# Altium footprint library BMS_Devices.PcbLib: 136 footprints (part 9 of 9)
Each footprint in its own frame and in the unit in brackets; x right, y up, seen from the top. Pads: shape width x height; smd on the part's side, far side on the other; paste and mask are expansions set on the pad; w line width, h text height; cw(c..) or ccw(c..) is an arc to the next point about the centre after c.
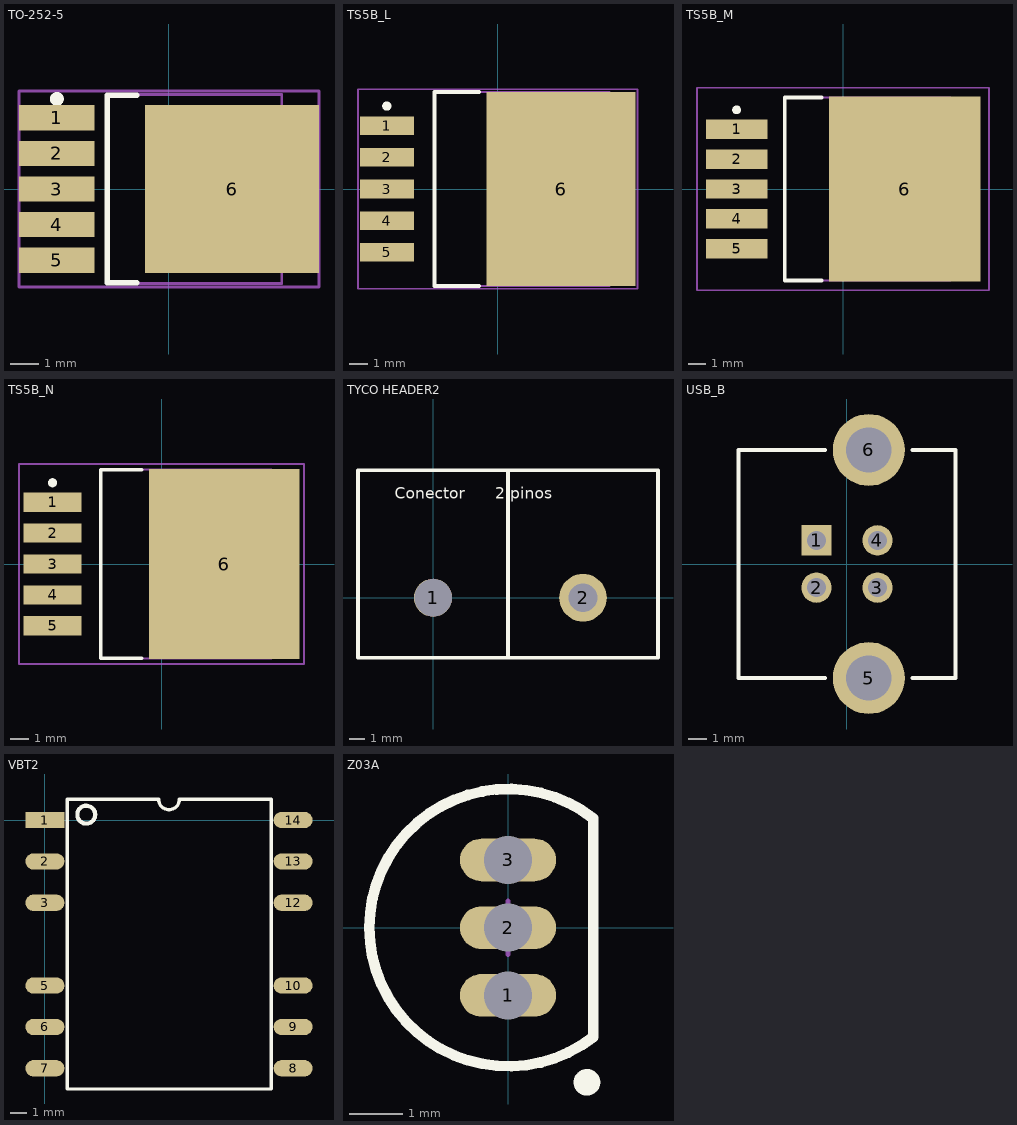
[diagram p8: the footprints below, top view; thin cyan lines are the x and y axes]

## TO-252-5 [mm] "D-PAK, 6-Leads, Body 6.1x6.5mm, Pitch 1.14mm, Lead Span 9.9mm, IPC High Density"
height 2.39
pads (6):
  rect 2.7x0.9 smd: 1(-4,2.54) 2(-4,1.27) 3(-4,0) 4(-4,-1.27) 5(-4,-2.54)
  rect 6.2x6 smd: 6(2.25,0)
Top Overlay:
  circle w0.25: c-4,3.211 r0.125
  lines w0.2: -1.15,-3.35 -2.2,-3.35 -2.2,3.35 -1.15,3.35
Mechanical 13:
  lines w0.1: -2.2,-3.375 4.02,-3.375 4.02,3.375 -2.2,3.375 -2.2,-3.375
Mechanical 15:
  lines w0.1: -0.5,0 0.5,0 ; 0,-0.5 0,0.5 ; -5.35,-3.5 5.35,-3.5 5.35,3.5 -5.35,3.5 -5.35,-3.5
3D body: height 2.39, standoff 0, extent -2.2,-3.375 4.02,3.375

## TS5B_L [mm] "D2-PAK, 6-Leads, Body 8.6x10.2mm, Pitch 1.7mm, Lead Span 14.1mm, IPC High Density"
height 4.65
pads (6):
  rect 2.9x1 smd: 1(-5.95,3.4) 2(-5.95,1.7) 3(-5.95,0) 4(-5.95,-1.7) 5(-5.95,-3.4)
  rect 8x10.4 smd: 6(3.4,0)
Top Overlay:
  circle w0.25: c-5.95,4.45 r0.125
  lines w0.2: -1,-5.2 -3.4,-5.2 -3.4,5.2 -1,5.2
Mechanical 13:
  lines w0.1: -3.4,-5.2 -3.4,5.2 6,5.2 6,-5.2 -3.4,-5.2
Mechanical 15:
  lines w0.1: -0.5,0 0.5,0 ; 0,-0.5 0,0.5 ; -7.5,-5.35 -7.5,5.35 7.5,5.35 7.5,-5.35 -7.5,-5.35
3D body: height 4.65, standoff 0, extent -3.4,-5.2 6,5.2

## TS5B_M [mm] "D2-PAK, 6-Leads, Body 8.6x10.2mm, Pitch 1.7mm, Lead Span 14.1mm, IPC Low Density"
height 4.65
pads (6):
  rect 3.5x1.1 smd: 1(-6.05,3.4) 2(-6.05,1.7) 3(-6.05,0) 4(-6.05,-1.7) 5(-6.05,-3.4)
  rect 8.6x10.5 smd: 6(3.5,0)
Top Overlay:
  circle w0.25: c-6.05,4.5 r0.125
  lines w0.2: -1.2,-5.2 -3.3,-5.2 -3.3,5.2 -1.2,5.2
Mechanical 13:
  lines w0.1: -3.3,-5.2 6.1,-5.2 6.1,5.2 -3.3,5.2 -3.3,-5.2
Mechanical 15:
  lines w0.1: -0.5,0 0.5,0 ; 0,-0.5 0,0.5 ; -8.3,-5.75 8.3,-5.75 8.3,5.75 -8.3,5.75 -8.3,-5.75
3D body: height 4.65, standoff 0, extent -3.3,-5.2 6.1,5.2

## TS5B_N [mm] "D2-PAK, 6-Leads, Body 8.6x10.2mm, Pitch 1.7mm, Lead Span 14.1mm, IPC Medium Density"
height 4.65
pads (6):
  rect 3.2x1.05 smd: 1(-6,3.4) 2(-6,1.7) 3(-6,0) 4(-6,-1.7) 5(-6,-3.4)
  rect 8.3x10.45 smd: 6(3.45,0)
Top Overlay:
  circle w0.25: c-6,4.475 r0.125
  lines w0.2: -1.1,-5.2 -3.35,-5.2 -3.35,5.2 -1.1,5.2
Mechanical 13:
  lines w0.1: -3.35,-5.2 -3.35,5.2 6.05,5.2 6.05,-5.2 -3.35,-5.2
Mechanical 15:
  lines w0.1: -0.5,0 0.5,0 ; 0,-0.5 0,0.5 ; -7.85,-5.5 -7.85,5.5 7.85,5.5 7.85,-5.5 -7.85,-5.5
3D body: height 4.65, standoff 0, extent -3.35,-5.2 6.05,5.2

## TYCO HEADER2 [mm]
pads (2):
  round 2.54 hole 2.5: 1(0,0)
  round 3.175 hole 1.905: 2(10,0)
Top Overlay:
  lines w0.254: 5,-4 5,8.5 ; -5,-4 -5,8.5 15,8.5 15,-4 -5,-4
  text "Conector      2 pinos" at -2.54,6.604 h0.75

## USB_B [mm] "Connector; USB1.1, Type B, Thru-Hole; 4 Position; Vertical"
height 15.62
pads (6):
  rect 1.6x1.6 hole 1: 1(-1.61,1.25)
  round 1.6 hole 1: 2(-1.61,-1.25) 3(1.61,-1.25) 4(1.61,1.25)
  round 3.8 hole 2.4: 5(1.15,-6.02) 6(1.15,6.02)
Top Overlay:
  lines w0.2: -1.15,-6.02 -5.73,-6.02 -5.73,6.02 -1.15,6.02 ; 3.45,-6.02 5.73,-6.02 5.73,6.02 3.45,6.02

## VBT2 [mm]
pads (12):
  rect 2.4x1 smd: 1(0,0)
  oval 2.4x1 smd: 2(0,-2.54) 3(0,-5.08) 5(0,-10.16) 6(0,-12.7) 7(0,-15.24) 8(15.24,-15.24) 9(15.24,-12.7) 10(15.24,-10.16) 12(15.24,-5.08) 13(15.24,-2.54) 14(15.24,0)
Top Overlay:
  circle w0.254: c2.54,0.33 r0.549
  lines w0.2: 1.372,-16.51 1.372,1.27 6.985,1.27 ccw(c7.62,1.27) 8.255,1.27 13.894,1.27 13.894,-16.51 1.372,-16.51

## Z03A [mm] "TO, Flat Index; 3 In-Line, Axial Leads; Body Dia. 5mm; Leads 0.55 x 0.50 mm (max)"
height 5.2
pads (3):
  oval 1.8x0.8 hole 0.9: 1(0,-1.27) 3(0,1.27)
  oval 1.8x0.8 hole 0.9 paste+0: 2(0,0)
Top Overlay:
  circle w0.25: c1.48,-2.9 r0.125
  lines w0.2: 1.601,-2.049 cw(c0,0) 1.601,2.049 1.6,-2.049
Mechanical 13:
  lines w0.1: 1.601,-2.049 cw(c0,0) 1.601,2.049 1.6,-2.049
Mechanical 15:
  lines w0.1: -0.5,0 0.5,0 ; 0,-0.5 0,0.5
3D body: height 5.2, standoff 0, extent -2.599,-2.611 1.6,2.611